# EAGLE library part QFN-20-5X5 (library SMD_Qualifier)
QFN-20, 5x5 mm, 0.65 mm pitch
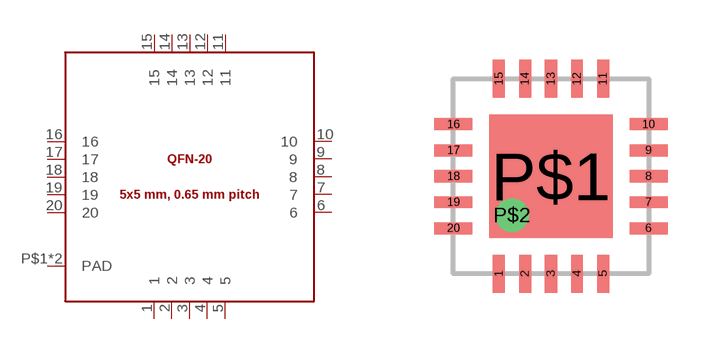
[diagram p5: symbol with the pads of QFN-20-5X5; footprint QFN-20-5X5]

Designator prefix -

## QFN-20-5X5  [QFN-20-5X5]
1  1
2  2
3  3
4  4
5  5
6  6
7  7
8  8
9  9
10  10
11  11
12  12
13  13
14  14
15  15
16  16
17  17
18  18  in
19  19  in
20  20  in
P$1  PAD
P$2  PAD

## Footprint QFN-20-5X5 (pad centres in mm)
QFN-20, 5 x 5, 0.65 mm pitch
smd 0.3 x 0.95: 1 -1.3,-2.438; 2 -0.65,-2.438; 3 0,-2.438; 4 0.65,-2.438; 5 1.3,-2.438; 11 1.3,2.438; 12 0.65,2.438; 13 0,2.438; 14 -0.65,2.438; 15 -1.3,2.438
smd 0.95 x 0.3: 6 2.438,-1.3; 7 2.438,-0.65; 8 2.438,0; 9 2.438,0.65; 10 2.438,1.3; 16 -2.438,1.3; 17 -2.438,0.65; 18 -2.438,0; 19 -2.438,-0.65; 20 -2.438,-1.3
smd 3.1 x 3.1: P$1 0,0
drill 0.33 pad 0.66: P$2 -0.975,-0.975